# Altium footprint library EN-C200_RA0.PcbLib: 31 footprints (part 2 of 2)
Each footprint in its own frame and in the unit in brackets; x right, y up, seen from the top. Pads: shape width x height; smd on the part's side, far side on the other; paste and mask are expansions set on the pad; w line width, h text height; cw(c..) or ccw(c..) is an arc to the next point about the centre after c.
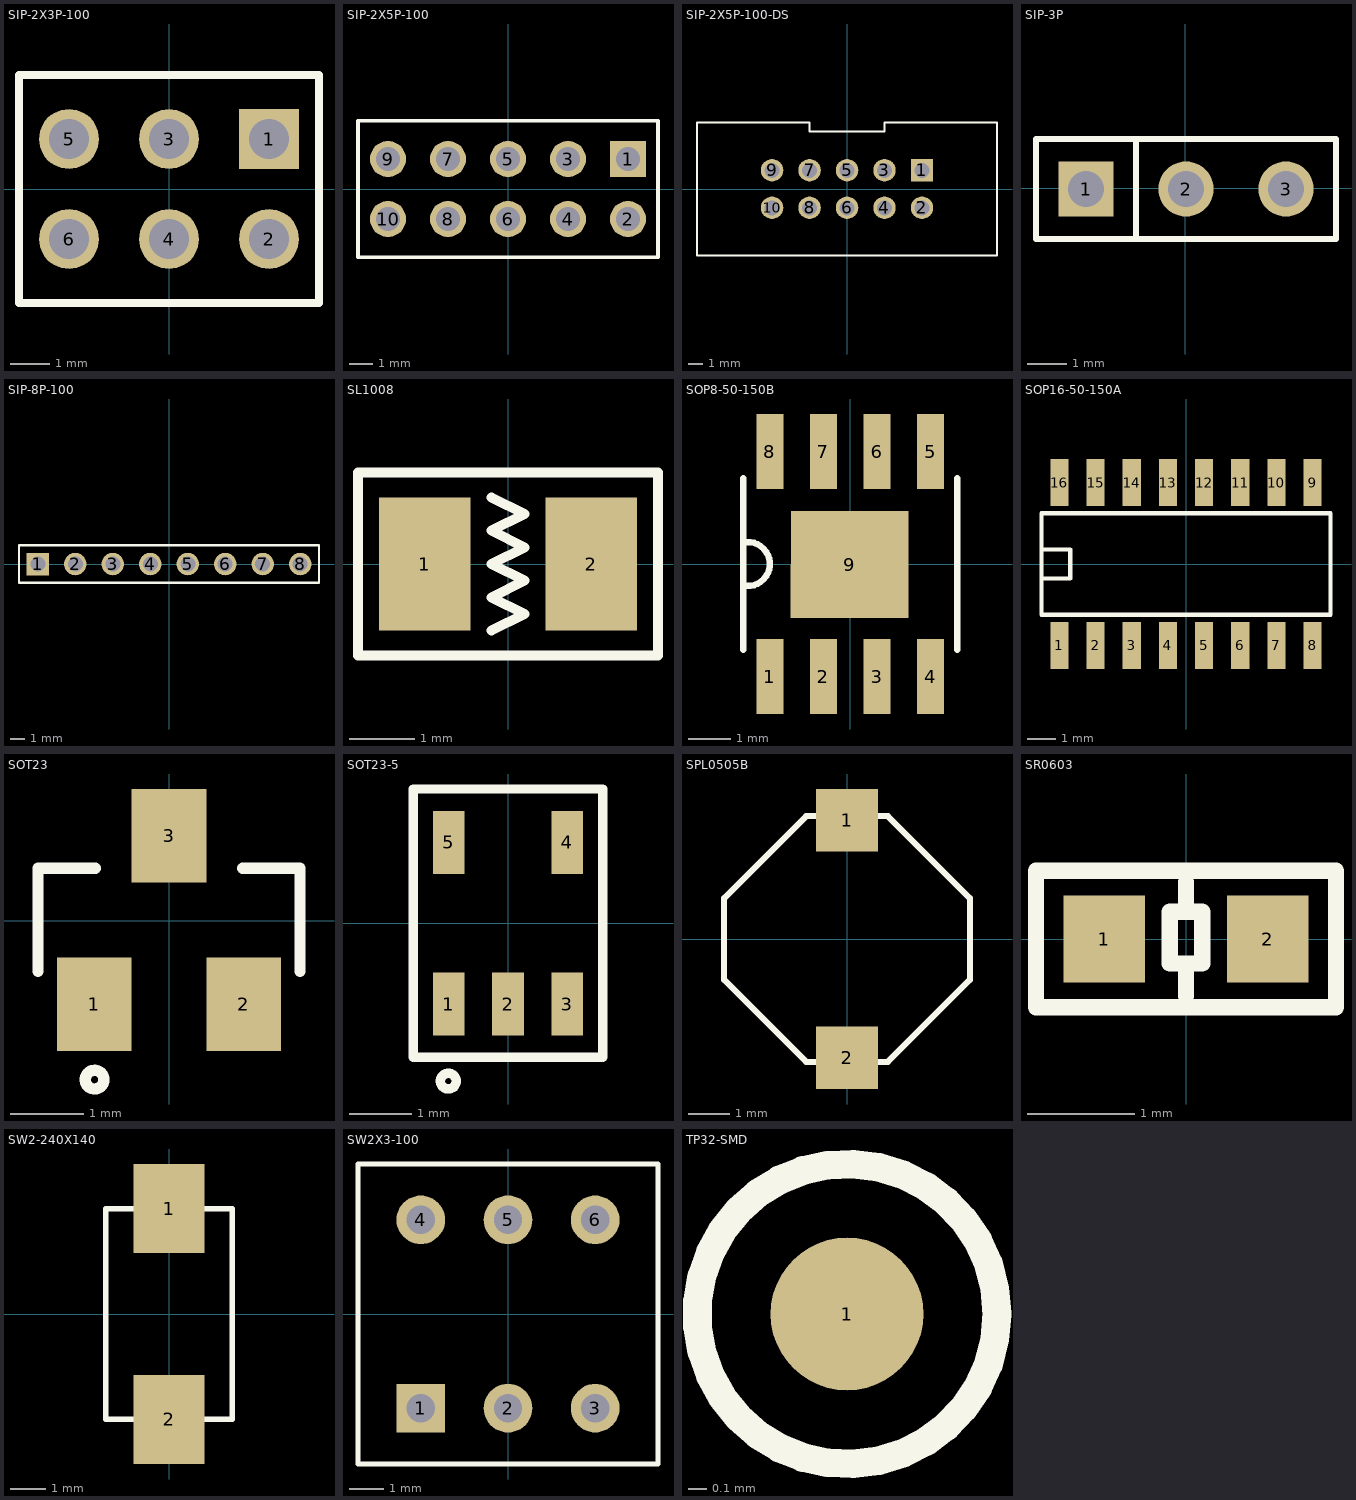
[diagram p1: the footprints below, top view; thin cyan lines are the x and y axes]

## SIP-2X3P-100 [mil] "SIP-2X3P-100"
pads (6):
  rect 60x60 / inner round 60 / far side round 60 hole 40: 1(100,50)
  round 60 hole 40: 2(100,-50) 3(0,50) 4(0,-50) 5(-100,50) 6(-100,-50)
Top Overlay:
  lines w8: -150,-114 150,-114 150,114 -150,114 -150,-114

## SIP-2X5P-100 [mil] "SIP-2X5P-100"
pads (10):
  rect 60x60 / inner round 60 / far side round 60 hole 40: 1(200,50)
  round 60 hole 40: 2(200,-50) 3(100,50) 4(100,-50) 5(0,50) 6(0,-50) 7(-100,50) 8(-100,-50) 9(-200,50) 10(-200,-50)
Top Overlay:
  lines w6: -250,-114 250,-114 250,114 -250,114 -250,-114

## SIP-2X5P-100-DS [mil] "SIP-2X5P-100-DS"
pads (10):
  rect 60x60 / inner round 60 / far side round 60 hole 40: 1(200,50)
  round 60 hole 40: 2(200,-50) 3(100,50) 4(100,-50) 5(0,50) 6(0,-50) 7(-100,50) 8(-100,-50) 9(-200,50) 10(-200,-50)
Top Overlay:
  lines w6: -400,-177.16 400,-177.16 400,177.16 100,177.16 100,153.54 -100,153.54 -100,177.16 -400,177.16 -400,-177.16

## SIP-3P [mil] "SIP-3P"
pads (3):
  rect 55x55 / inner round 60 / far side round 60 hole 36: 1(-99,-1)
  round 55 / inner round 60 / far side round 60 hole 36: 2(1,-1) 3(101,-1)
Top Overlay:
  lines w6: -49,-51 -49,49 ; -149,-51 151,-51 151,49 -149,49 -149,-51

## SIP-8P-100 [mil] "SIP-8P-100"
pads (8):
  rect 60x60 / inner round 60 / far side round 60 hole 40: 1(-350,0)
  round 60 hole 40: 2(-250,0) 3(-150,0) 4(-50,0) 5(50,0) 6(150,0) 7(250,0) 8(350,0)
Top Overlay:
  lines w6: -400,-50 400,-50 400,50 -400,50 -400,-50

## SL1008 [mil] "SL1008"
pads (2):
  rect 55x80 smd: 1(-50,0) 2(50,0)
Top Overlay:
  lines w6: -10,-40 10,-30 -10,-20 10,-10 -10,0 10,10 -10,20 10,30 -10,40 ; -90,-55 90,-55 90,55 -90,55 -90,-55

## SOP8-50-150B [mil] "SOP8-50-150B"
pads (9):
  rect 25x70 smd: 1(-75,-105) 2(-25,-105) 3(25,-105) 4(75,-105) 5(75,105) 6(25,105) 7(-25,105) 8(-75,105)
  rect 110x100 smd: 9(-0.5,-0.5)
Top Overlay:
  lines w6: -100,-80 -100,80 ; -100,-20 ccw(c-95.5,0) -100,20 ; 100,-80 100,80
Top Paste:
  dashed: -54,-49 -54,-5 -5,-5 -5,-49
  dashed: -54,5 -54,49 -5,49 -5,5
  dashed: 5,5 5,49 54,49 54,5
  dashed: 5,-49 5,-5 54,-5 54,-49
Top Solder:
  dashed: -54,5 -54,49 -5,49 -5,5
  dashed: -54,-49 -54,-5 -5,-5 -5,-49
  dashed: 5,5 5,49 54,49 54,5
  dashed: 5,-49 5,-5 54,-5 54,-49

## SOP16-50-150A [mil] "SOP16-50-150A"
pads (16):
  rect 25x65 smd: 1(-175,-112.5) 2(-125,-112.5) 3(-75,-112.5) 4(-25,-112.5) 5(25,-112.5) 6(75,-112.5) 7(125,-112.5) 8(175,-112.5) 9(175,112.5) 10(125,112.5) 11(75,112.5) 12(25,112.5) 13(-25,112.5) 14(-75,112.5) 15(-125,112.5) 16(-175,112.5)
Top Overlay:
  lines w6: -200,-30 -200,30 ; -200,-70 -200,-20 -160,-20 -160,20 -200,20 -200,70 200,70 200,-70 -200,-70

## SOT23 [mil] "SOT23"
pads (3):
  rect 40x50 smd: 1(-40,-44.6) 2(40,-44.6) 3(0,45.4)
Top Overlay:
  circle w6: c-39.8,-85 r5
  lines w6: -70,-27.2 -70,28 -39.4,28 ; 39.4,28 70,28 70,-27.2

## SOT23-5 [mil] "SOT23-5"
pads (5):
  rect 20x40 smd: 1(-37.4,-51.18) 2(0,-51.18) 3(37.4,-51.18) 4(37.4,51.18) 5(-37.4,51.18)
Top Overlay:
  circle w6: c-37.8,-100 r5
  lines w6: -60,-85 30,-85 60,-85 60,85 -60,85 -60,-85

## SPL0505B [mil] "SPL0505B"
pads (2):
  rect 60x60 smd: 1(0,114.17) 2(0,-114.17)
Top Overlay:
  lines w6: -118.11,-39.37 -118.11,39.37 -39.37,118.11 39.37,118.11 118.11,39.37 118.11,-39.37 39.37,-118.11 -39.37,-118.11 -118.11,-39.37

## SR0603 [mil] "SR0603"
pads (2):
  rect 30x32 smd: 1(-30,0) 2(30,0)
Top Overlay:
  lines w6: 0,-21 0,-9 ; 0,21 0,10 -6,10 ; -6,10 -6,-9 6,-9 6,10 -6,10 ; -55,-25 -55,25 55,25 55,-25 -55,-25

## SW2-240X140 [mil] "SW2-240X140"
pads (2):
  rect 80x100 smd: 1(0,118.11) 2(0,-118.11)
Top Overlay:
  lines w6: -70.87,-118.11 -70.87,118.11 70.87,118.11 70.87,-118.11 -70.87,-118.11

## SW2X3-100 [mil] "SW2X3-100"
pads (6):
  rect 55x55 / inner round 60 / far side round 60 hole 32: 1(-98.42,-106.3)
  round 55 / inner round 60 / far side round 60 hole 32: 2(0,-106.3) 3(98.42,-106.3) 4(-98.42,106.3) 5(0,106.3) 6(98.42,106.3)
Top Overlay:
  lines w6: -169.29,-169.29 -169.29,169.29 169.29,169.29 169.29,-169.29 -169.29,-169.29

## TP32-SMD [mil] "TP32-SMD"
pads (1):
  round 32 smd: 1(-158,-105.3)
Top Overlay:
  circle w6: c-158,-105.3 r31.4